# Altium footprint library Active.PcbLib: 10 footprints
Each footprint in its own frame and in the unit in brackets; x right, y up, seen from the top. Pads: shape width x height; smd on the part's side, far side on the other; paste and mask are expansions set on the pad; w line width, h text height; cw(c..) or ccw(c..) is an arc to the next point about the centre after c.
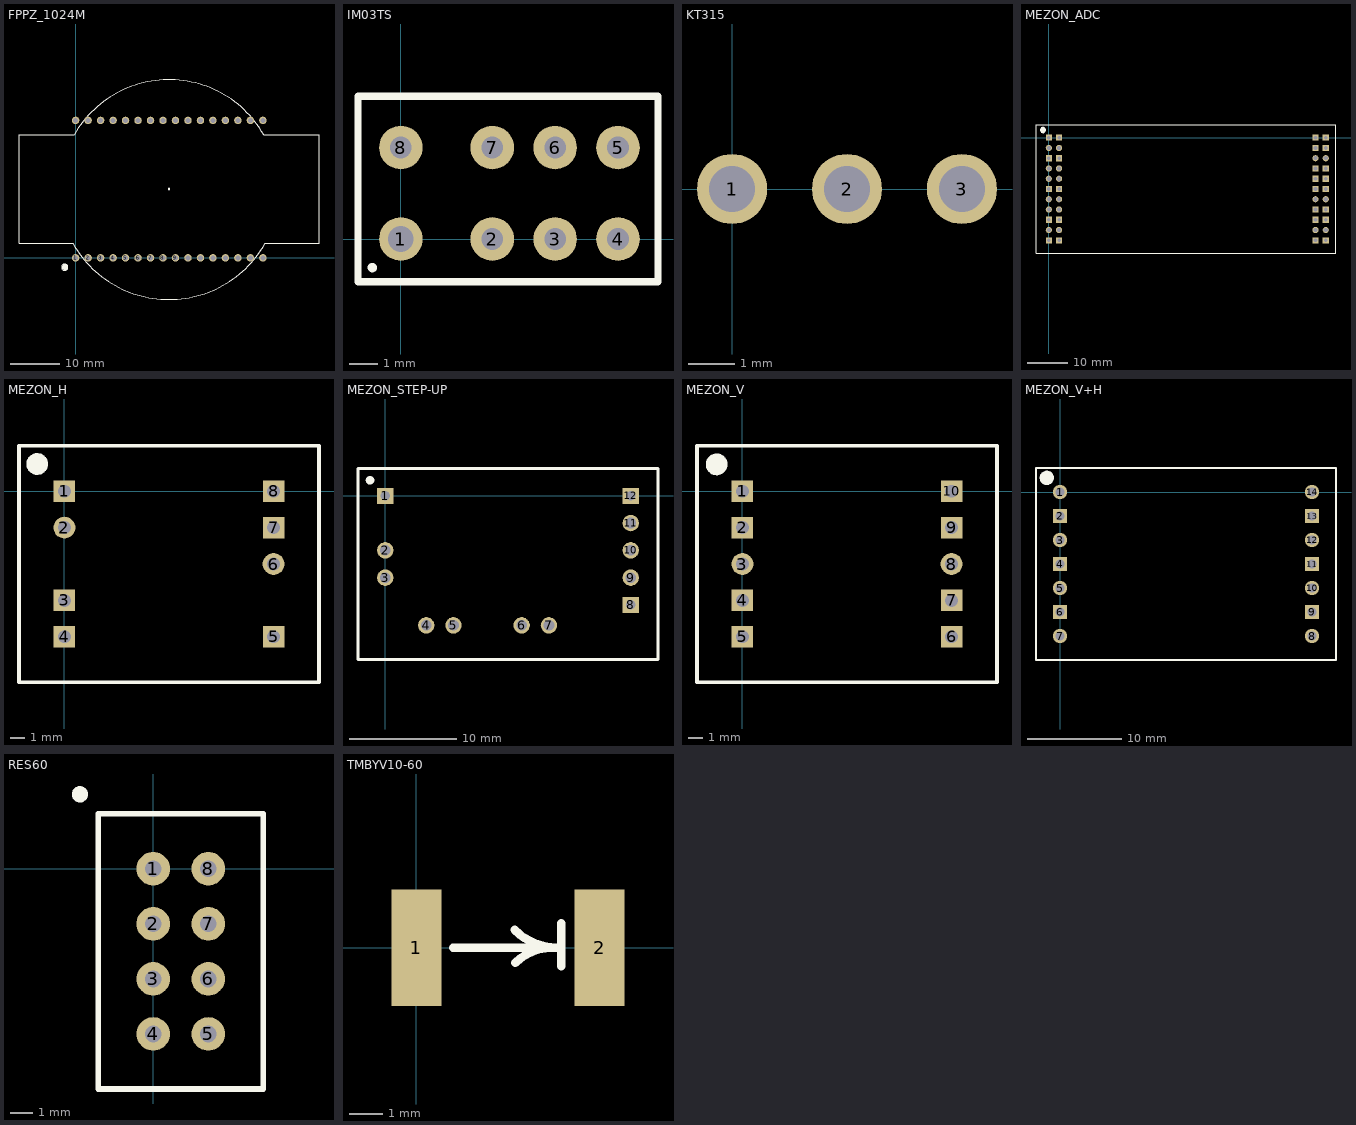
[diagram p0: the footprints below, top view; thin cyan lines are the x and y axes]

## FPPZ_1024M [mil]
pads (32):
  round 60 hole 39.37: 1(0,0) 2(100,0) 3(200,0) 4(300,0) 5(400,0) 6(500,0) 7(600,0) 8(700,0) 9(800,0) 10(900,0) 11(1000,0) 12(1100,0) 13(1200,0) 14(1300,0) 15(1400,0) 16(1500,0) 17(1500,1100) 18(1400,1100) 19(1300,1100) 20(1200,1100) 21(1100,1100) 22(1000,1100) 23(900,1100) 24(800,1100) 25(700,1100) 26(600,1100) 27(500,1100) 28(400,1100) 29(300,1100) 30(200,1100) 31(100,1100) 32(0,1100)
Top Overlay:
  circle w10: c-86,-75 r25
  circle w10: c-86,-75 r15.81
  circle w10: c-86,-75 r6.71
  circle w10: c-79.29,-75 r7.71
  circle w10: c748.03,551.18 r5.03
  lines w10: -21.98,116.82 ccw(c748.03,551.18) 1518.04,116.82 ; -21.98,118.11 -452.76,118.11 -452.76,984.25 -11.1,984.25 ; -11.1,985.06 cw(c748.03,551.18) 1508.02,983.57 ; 1508.02,983.71 1948.28,983.71 1948.82,984.25 1948.82,118.11 1948.28,118.65 1518.04,118.65

## IM03TS [mil] "IM03TS"
height 196.85
pads (8):
  round 60 hole 35.43: 1(0,0)
  round 60 hole 30: 2(125.98,0) 3(212.6,0) 4(299.21,0) 5(299.21,125.98) 6(212.6,125.98) 7(125.98,125.98) 8(0,125.98)
Top Overlay:
  circle w10: c-39.37,-39.37 r1.51
  lines w10: -59.06,-59.06 354.33,-59.06 354.33,196.85 -59.06,196.85 -59.06,-59.06

## KT315 [mil] "KT315"
height 393.7
pads (3):
  round 60 hole 39.37: 1(0,0) 2(98.43,0) 3(196.85,0)

## MEZON_ADC [mm] "MEZON_ADC"
pads (44):
  rect 1.5x1.5 hole 0.9: 1(0,0) 2(2.54,0) 5(0,-5.08) 6(2.54,-5.08) 11(0,-12.7) 12(2.54,-12.7) 17(0,-20.32) 18(2.54,-20.32) 21(0,-25.4) 22(2.54,-25.4) 23(66.04,-25.4) 24(68.58,-25.4) 27(66.04,-20.32) 28(68.58,-20.32) 29(66.04,-17.78) 30(68.58,-17.78) 33(66.04,-12.7) 34(68.58,-12.7) 35(66.04,-10.16) 36(68.58,-10.16) 37(66.04,-7.62) 38(68.58,-7.62) 41(66.04,-2.54) 42(68.58,-2.54) 43(66.04,0) 44(68.58,0)
  round 1.524 hole 1: 3(0,-2.54) 4(2.54,-2.54) 7(0,-7.62) 8(2.54,-7.62) 9(0,-10.16) 10(2.54,-10.16) 13(0,-15.24) 14(2.54,-15.24) 15(0,-17.78) 16(2.54,-17.78) 19(0,-22.86) 20(2.54,-22.86) 25(66.04,-22.86) 26(68.58,-22.86) 31(66.04,-15.24) 32(68.58,-15.24) 39(66.04,-5.08) 40(68.58,-5.08)
Top Overlay:
  circle w0.254: c-1.44,1.905 r0.635
  circle w0.254: c-1.44,1.905 r0.402
  circle w0.254: c-1.44,1.905 r0.17
  circle w0.254: c-1.27,1.905 r0.196
  lines w0.254: -3.175,-28.575 71.12,-28.575 71.12,3.175 -3.175,3.175 -3.175,-28.575

## MEZON_H [mm]
pads (8):
  rect 1.5x1.5 hole 0.9: 1(0,0) 3(0,-7.62) 4(0,-10.16) 5(14.605,-10.16) 7(14.605,-2.54) 8(14.605,0)
  round 1.524 hole 0.9: 2(0,-2.54) 6(14.605,-5.08)
Top Overlay:
  circle w0.254: c-1.735,1.905 r0.196
  circle w0.254: c-1.905,1.905 r0.17
  circle w0.254: c-1.905,1.905 r0.402
  circle w0.254: c-1.905,1.905 r0.635
  lines w0.254: -3.175,-13.335 -3.175,3.175 17.78,3.175 17.78,-13.335 -3.175,-13.335

## MEZON_STEP-UP [mil] "MEZON_STEP-UP"
pads (12):
  rect 59.06x59.06 hole 35.43: 1(0,0) 8(900,-400) 12(900,0)
  round 60 hole 39.37: 2(0,-200) 3(0,-300) 4(150,-475) 5(250,-475) 6(500,-475) 7(600,-475) 9(900,-300) 10(900,-200) 11(900,-100)
Top Overlay:
  circle w10: c-57,60 r3.61
  circle w10: c-56,57 r10.77
  circle w10: c-56,59 r6.08
  lines w10: -100,-600 1000,-600 1000,100 -100,100 -100,-600

## MEZON_V [mm]
pads (10):
  rect 1.5x1.5 hole 0.9: 1(0,0) 2(0,-2.54) 4(0,-7.62) 5(0,-10.16) 6(14.605,-10.16) 7(14.605,-7.62) 9(14.605,-2.54) 10(14.605,0)
  round 1.524 hole 0.9: 3(0,-5.08) 8(14.605,-5.08)
Top Overlay:
  circle w0.254: c-1.633,1.88 r0.196
  circle w0.254: c-1.803,1.88 r0.17
  circle w0.254: c-1.803,1.88 r0.402
  circle w0.254: c-1.803,1.88 r0.635
  lines w0.254: -3.175,-13.335 17.78,-13.335 17.78,2.54 17.78,3.175 -3.175,3.175 -3.175,-13.335

## MEZON_V+H [mm] "MEZON_V+H"
height 5
pads (14):
  round 1.524 hole 0.9: 1(0,0) 3(0,-5.08) 5(0,-10.16) 7(0,-15.24) 8(26.67,-15.24) 10(26.67,-10.16) 12(26.67,-5.08) 14(26.67,0)
  rect 1.5x1.5 hole 0.9: 2(0,-2.54) 4(0,-7.62) 6(0,-12.7) 9(26.67,-12.7) 11(26.67,-7.62) 13(26.67,-2.54)
Top Overlay:
  circle w0.254: c-1.397,1.499 r0.635
  circle w0.254: c-1.397,1.499 r0.402
  circle w0.254: c-1.397,1.499 r0.17
  circle w0.254: c-1.227,1.499 r0.196
  lines w0.254: -2.54,-17.78 -2.54,2.54 29.21,2.54 29.21,-17.78 -2.54,-17.78

## RES60 [mil] "RES60"
height 984.25
pads (8):
  round 60 hole 30: 1(0,0) 2(0,-98.43) 3(0,-196.85) 4(0,-295.28) 5(98.43,-295.28) 6(98.43,-196.85) 7(98.43,-98.43) 8(98.43,0)
Top Overlay:
  circle w10: c-131,133 r9.49
  circle w10: c-132,133 r2.83
  lines w10: -98.43,-393.7 -98.43,98.43 196.85,98.43 196.85,-393.7 -98.43,-393.7

## TMBYV10-60 [mm] "TMBYV10-60"
height 5
pads (2):
  rect 1.5x3.5 smd: 1(0,0) 2(5.5,0)
Top Overlay:
  lines w0.254: 1.1,0 4.3,0 ; 2.946,0.533 ccw(c4.234,1.821) 4.234,0 4.3,0 ; 2.972,-0.457 cw(c4.076,-1.561) 4.076,0 4.3,0 ; 4.242,0 4.3,0 ; 4.343,-0.559 4.343,0.737